# EAGLE library part LTC2420 (library linear-technology)
20 Bit Analog to Digital Converter 1 Input 1 Sigma-Delta
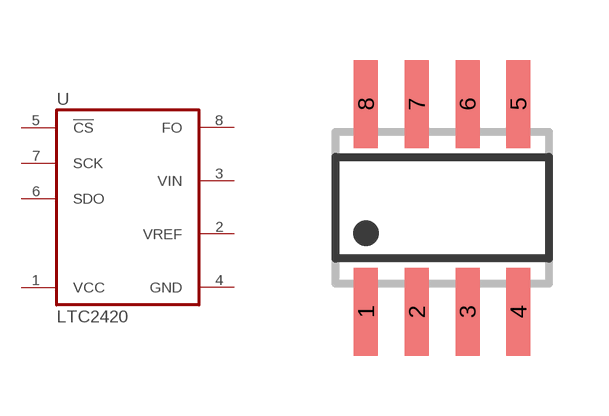
[diagram p68: symbol with the pads of SO08; footprint SO08]

Designator prefix U

## LTC2420  [SO08]
1  VCC  pwr
2  VREF  in
3  VIN  in
4  GND  pwr
5  !CS!  oc
6  SDO  out
7  SCK  in
8  FO

## Footprint SO08 (pad centres in mm)
SMALL OUTLINE INTEGRATED CIRCUIT body 3.9 mm/JEDEC MS-012AA
smd 0.6 x 2.2: 1 -1.905,-2.6; 2 -0.635,-2.6; 3 0.635,-2.6; 4 1.905,-2.6; 5 1.905,2.6; 6 0.635,2.6; 7 -0.635,2.6; 8 -1.905,2.6